# Altium integrated library USB4125-GF-A_REVA2.IntLib: 1 symbol
Pins are listed as number, name and electrical type; pins without a type are passive.

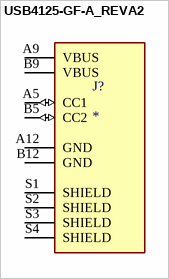
[diagram p0: symbol USB4125-GF-A_REVA2]

## USB4125-GF-A_REVA2
designator J?
MP: USB4125-GF-A_REVA2; Package: None; Availability: Unavailable; Value: *; Price: None
footprint GCT_USB4125-GF-A_REVA2
pins: A5 CC1 (io), A9 VBUS (power), A12 GND (power), B5 CC2 (io), B9 VBUS (power), B12 GND (power), S1 SHIELD, S2 SHIELD, S3 SHIELD, S4 SHIELD